# Altium footprint library Footprint-Lib-ABahlmann-MISC.PcbLib: 69 footprints (part 1 of 5)
Each footprint in its own frame and in the unit in brackets; x right, y up, seen from the top. Pads: shape width x height; smd on the part's side, far side on the other; paste and mask are expansions set on the pad; w line width, h text height; cw(c..) or ccw(c..) is an arc to the next point about the centre after c.
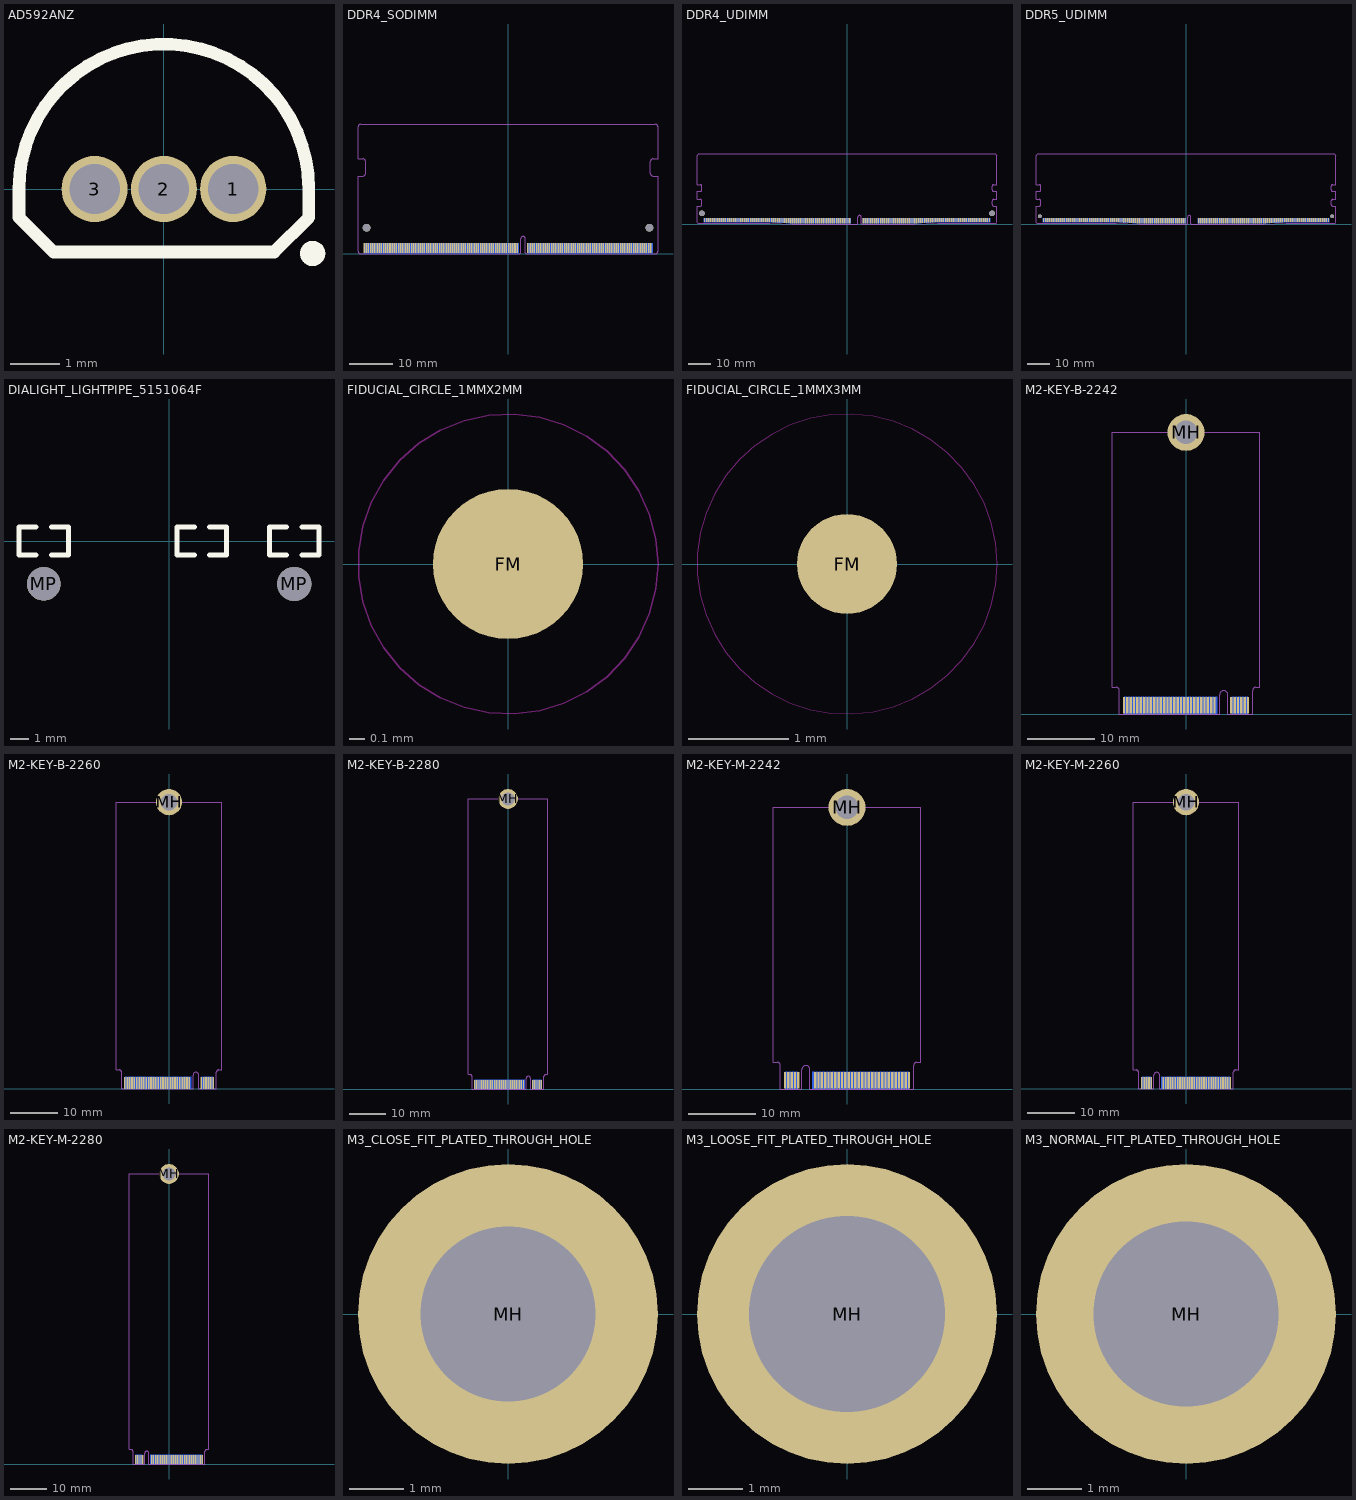
[diagram p0: the footprints below, top view; thin cyan lines are the x and y axes]

## AD592ANZ [mil]
pads (3):
  round 52.5 hole 40: 1(55,0) 2(0,0) 3(-55,0)
Top Overlay:
  circle w10: c118.11,-51.18 r5
  lines w10: -115,-22.5 -115,0 cw(c0,0) 115,0 115,-22.5 87.5,-50 -87.5,-50 -115,-22.5

## DDR4_SODIMM [mm]
pads (262):
  rect 0.35x2.3 smd paste-2539.97: 1(-33.375,1.275) 3(-32.875,1.275) 5(-32.375,1.275) 7(-31.875,1.275) 9(-31.375,1.275) 11(-30.875,1.275) 13(-30.375,1.275) 15(-29.875,1.275) 17(-29.375,1.275) 19(-28.875,1.275) 21(-28.375,1.275) 23(-27.875,1.275) 25(-27.375,1.275) 27(-26.875,1.275) 29(-26.375,1.275) 31(-25.875,1.275) 33(-25.375,1.275) 35(-24.875,1.275) 37(-24.375,1.275) 39(-23.875,1.275) 41(-23.375,1.275) 43(-22.875,1.275) 45(-22.375,1.275) 47(-21.875,1.275) 49(-21.375,1.275) 51(-20.875,1.275) 53(-20.375,1.275) 55(-19.875,1.275) 57(-19.375,1.275) 59(-18.875,1.275) 61(-18.375,1.275) 63(-17.875,1.275) 65(-17.375,1.275) 67(-16.875,1.275) 69(-16.375,1.275) 71(-15.875,1.275) 73(-15.375,1.275) 75(-14.875,1.275) 77(-14.375,1.275) 79(-13.875,1.275) 81(-13.375,1.275) 83(-12.875,1.275) 85(-12.375,1.275) 87(-11.875,1.275) 89(-11.375,1.275) 91(-10.875,1.275) 93(-10.375,1.275) 95(-9.875,1.275) 97(-9.375,1.275) 99(-8.875,1.275) 101(-8.375,1.275) 103(-7.875,1.275) 105(-7.375,1.275) 107(-6.875,1.275) 109(-6.375,1.275) 111(-5.875,1.275) 113(-5.375,1.275) 115(-4.875,1.275) 117(-4.375,1.275) 119(-3.875,1.275) 121(-3.375,1.275) 123(-2.875,1.275) 125(-2.375,1.275) 127(-1.875,1.275) 129(-1.375,1.275) 131(-0.875,1.275) 133(-0.375,1.275) 135(0.125,1.275) 137(0.625,1.275) 139(1.125,1.275) 141(1.625,1.275) 143(2.125,1.275) 145(4.625,1.275) 147(5.125,1.275) 149(5.625,1.275) 151(6.125,1.275) 153(6.625,1.275) 155(7.125,1.275) 157(7.625,1.275) 159(8.125,1.275) 161(8.625,1.275) 163(9.125,1.275) 165(9.625,1.275) 167(10.125,1.275) 169(10.625,1.275) 171(11.125,1.275) 173(11.625,1.275) 175(12.125,1.275) 177(12.625,1.275) 179(13.125,1.275) 181(13.625,1.275) 183(14.125,1.275) 185(14.625,1.275) 187(15.125,1.275) 189(15.625,1.275) 191(16.125,1.275) 193(16.625,1.275) 195(17.125,1.275) 197(17.625,1.275) 199(18.125,1.275) 201(18.625,1.275) 203(19.125,1.275) 205(19.625,1.275) 207(20.125,1.275) 209(20.625,1.275) 211(21.125,1.275) 213(21.625,1.275) 215(22.125,1.275) 217(22.625,1.275) 219(23.125,1.275) 221(23.625,1.275) 223(24.125,1.275) 225(24.625,1.275) 227(25.125,1.275) 229(25.625,1.275) 231(26.125,1.275) 233(26.625,1.275) 235(27.125,1.275) 237(27.625,1.275) 239(28.125,1.275) 241(28.625,1.275) 243(29.125,1.275) 245(29.625,1.275) 247(30.125,1.275) 249(30.625,1.275) 251(31.125,1.275) 253(31.625,1.275) 255(32.125,1.275) 257(32.625,1.275) 259(33.125,1.275)
  rect 0.35x2.3 smd far side paste-2539.97: 2(-33.125,1.275) 4(-32.625,1.275) 6(-32.125,1.275) 8(-31.625,1.275) 10(-31.125,1.275) 12(-30.625,1.275) 14(-30.125,1.275) 16(-29.625,1.275) 18(-29.125,1.275) 20(-28.625,1.275) 22(-28.125,1.275) 24(-27.625,1.275) 26(-27.125,1.275) 28(-26.625,1.275) 30(-26.125,1.275) 32(-25.625,1.275) 34(-25.125,1.275) 36(-24.625,1.275) 38(-24.125,1.275) 40(-23.625,1.275) 42(-23.125,1.275) 44(-22.625,1.275) 46(-22.125,1.275) 48(-21.625,1.275) 50(-21.125,1.275) 52(-20.625,1.275) 54(-20.125,1.275) 56(-19.625,1.275) 58(-19.125,1.275) 60(-18.625,1.275) 62(-18.125,1.275) 64(-17.625,1.275) 66(-17.125,1.275) 68(-16.625,1.275) 70(-16.125,1.275) 72(-15.625,1.275) 74(-15.125,1.275) 76(-14.625,1.275) 78(-14.125,1.275) 80(-13.625,1.275) 82(-13.125,1.275) 84(-12.626,1.275) 86(-12.126,1.275) 88(-11.626,1.275) 90(-11.126,1.275) 92(-10.626,1.275) 94(-10.126,1.275) 96(-9.626,1.275) 98(-9.126,1.275) 100(-8.626,1.275) 102(-8.126,1.275) 104(-7.626,1.275) 106(-7.126,1.275) 108(-6.626,1.275) 110(-6.126,1.275) 112(-5.626,1.275) 114(-5.126,1.275) 116(-4.626,1.275) 118(-4.126,1.275) 120(-3.626,1.275) 122(-3.126,1.275) 124(-2.626,1.275) 126(-2.126,1.275) 128(-1.626,1.275) 130(-1.126,1.275) 132(-0.625,1.275) 134(-0.125,1.275) 136(0.375,1.275) 138(0.875,1.275) 140(1.375,1.275) 142(1.875,1.275) 144(2.375,1.275) 146(4.875,1.275) 148(5.375,1.275) 150(5.875,1.275) 152(6.375,1.275) 154(6.875,1.275) 156(7.375,1.275) 158(7.875,1.275) 160(8.375,1.275) 162(8.875,1.275) 164(9.375,1.275) 166(9.875,1.275) 168(10.375,1.275) 170(10.875,1.275) 172(11.375,1.275) 174(11.875,1.275) 176(12.375,1.275) 178(12.875,1.275) 180(13.375,1.275) 182(13.875,1.275) 184(14.375,1.275) 186(14.875,1.275) 188(15.375,1.275) 190(15.875,1.275) 192(16.375,1.275) 194(16.875,1.275) 196(17.375,1.275) 198(17.875,1.275) 200(18.375,1.275) 202(18.875,1.275) 204(19.375,1.275) 206(19.875,1.275) 208(20.375,1.275) 210(20.875,1.275) 212(21.375,1.275) 214(21.875,1.275) 216(22.375,1.275) 218(22.875,1.275) 220(23.375,1.275) 222(23.875,1.275) 224(24.375,1.275) 226(24.875,1.275) 228(25.375,1.275) 230(25.875,1.275) 232(26.375,1.275) 234(26.875,1.275) 236(27.375,1.275) 238(27.875,1.275) 240(28.375,1.275) 242(28.875,1.275) 244(29.375,1.275) 246(29.875,1.275) 248(30.375,1.275) 250(30.875,1.275) 252(31.375,1.275) 254(31.875,1.275) 256(32.375,1.275) 258(32.875,1.275) 260(33.375,1.275)
  round 1.8 hole 1.8 unplated: MP(-32.8,6) MP(32.8,6)
Board Shape:
  lines w0.1: -34.8,0.6 ccw(c-34.2,0.6) -34.2,0 2.75,0 3,0.25 3,3.5 cw(c3.5,3.5) 4,3.5 4,0.25 4.25,0 34.2,0 ccw(c34.2,0.6) 34.8,0.6 34.8,18 33.7,18 cw(c33.7,18.65) 33.05,18.65 33.05,21.35 cw(c33.7,21.35) 33.7,22 34.8,22 34.8,29.4 ccw(c34.2,29.4) 34.2,30 -34.2,30 ccw(c-34.2,29.4) -34.8,29.4 -34.8,22 -33.7,22 cw(c-33.7,21.35) -33.05,21.35 -33.05,18.65 cw(c-33.7,18.65) -33.7,18 -34.8,18 -34.8,0.6

## DDR4_UDIMM [mm]
pads (290):
  rect 0.6x1.85 smd paste-2539.97: 1(-63.325,1.8) 2(-62.475,1.8) 3(-61.625,1.8) 4(-60.775,1.8) 5(-59.925,1.8) 6(-59.075,1.8) 7(-58.225,1.8) 8(-57.375,1.8) 9(-56.525,1.8) 10(-55.675,1.8) 11(-54.825,1.8) 12(-53.975,1.8) 13(-53.125,1.8) 14(-52.275,1.8) 15(-51.425,1.8) 16(-50.575,1.8) 17(-49.725,1.8) 18(-48.875,1.8) 19(-48.025,1.8) 20(-47.175,1.8) 21(-46.325,1.8) 22(-45.475,1.8) 23(-44.625,1.8) 24(-43.775,1.8) 25(-42.925,1.8) 26(-42.075,1.8) 27(-41.225,1.8) 28(-40.375,1.8) 29(-39.525,1.8) 30(-38.675,1.8) 31(-37.825,1.8) 32(-36.975,1.8) 33(-36.125,1.8) 34(-35.275,1.8) 35(-34.425,1.8) 36(-33.575,1.8) 116(39.525,1.8) 117(40.375,1.8) 118(41.225,1.8) 119(42.075,1.8) 120(42.925,1.8) 121(43.775,1.8) 122(44.625,1.8) 123(45.475,1.8) 124(46.325,1.8) 125(47.175,1.8) 126(48.025,1.8) 127(48.875,1.8) 128(49.725,1.8) 129(50.575,1.8) 130(51.425,1.8) 131(52.275,1.8) 132(53.125,1.8) 133(53.975,1.8) 134(54.825,1.8) 135(55.675,1.8) 136(56.525,1.8) 137(57.375,1.8) 138(58.225,1.8) 139(59.075,1.8) 140(59.925,1.8) 141(60.775,1.8) 142(61.625,1.8) 143(62.475,1.8) 144(63.325,1.8)
  rect 0.6x1.9 smd paste-2539.97: 37(-32.725,1.775) 115(38.675,1.775)
  rect 0.6x1.95 smd paste-2539.97: 38(-31.875,1.75) 114(37.825,1.75)
  rect 0.6x2 smd paste-2539.97: 39(-31.025,1.725) 113(36.975,1.725)
  rect 0.6x2.05 smd paste-2539.97: 40(-30.175,1.7) 112(36.125,1.7)
  rect 0.6x2.1 smd paste-2539.97: 41(-29.325,1.675) 111(35.275,1.675)
  rect 0.6x2.15 smd paste-2539.97: 42(-28.475,1.65) 110(34.425,1.65)
  rect 0.6x2.2 smd paste-2539.97: 43(-27.625,1.625) 109(33.575,1.625)
  rect 0.6x2.25 smd paste-2539.97: 44(-26.775,1.6) 108(32.725,1.6)
  rect 0.6x2.3 smd paste-2539.97: 45(-25.925,1.575) 107(31.875,1.575)
  rect 0.6x2.35 smd paste-2539.97: 46(-25.075,1.55) 47(-24.225,1.55) 48(-23.375,1.55) 49(-22.525,1.55) 50(-21.675,1.55) 51(-20.825,1.55) 52(-19.975,1.55) 53(-19.125,1.55) 54(-18.275,1.55) 55(-17.425,1.55) 56(-16.575,1.55) 57(-15.725,1.55) 58(-14.875,1.55) 59(-14.025,1.55) 60(-13.175,1.55) 61(-12.325,1.55) 62(-11.475,1.55) 63(-10.625,1.55) 64(-9.775,1.55) 65(-8.925,1.55) 66(-8.075,1.55) 67(-7.225,1.55) 68(-6.375,1.55) 69(-5.525,1.55) 70(-4.675,1.55) 71(-3.825,1.55) 72(-2.975,1.55) 73(-2.125,1.55) 74(-1.275,1.55) 75(-0.425,1.55) 76(0.425,1.55) 77(1.275,1.55) 78(7.225,1.55) 79(8.075,1.55) 80(8.925,1.55) 81(9.775,1.55) 82(10.625,1.55) 83(11.475,1.55) 84(12.325,1.55) 85(13.175,1.55) 86(14.025,1.55) 87(14.875,1.55) 88(15.725,1.55) 89(16.575,1.55) 90(17.425,1.55) 91(18.275,1.55) 92(19.125,1.55) 93(19.975,1.55) 94(20.825,1.55) 95(21.675,1.55) 96(22.525,1.55) 97(23.375,1.55) 98(24.225,1.55) 99(25.075,1.55) 100(25.925,1.55) 101(26.775,1.55) 102(27.625,1.55) 103(28.475,1.55) 104(29.325,1.55) 105(30.175,1.55) 106(31.025,1.55)
  rect 0.6x1.85 smd far side paste-2539.97: 145(-63.325,1.8) 146(-62.475,1.8) 147(-61.625,1.8) 148(-60.775,1.8) 149(-59.925,1.8) 150(-59.075,1.8) 151(-58.225,1.8) 152(-57.375,1.8) 153(-56.525,1.8) 154(-55.675,1.8) 155(-54.825,1.8) 156(-53.975,1.8) 157(-53.125,1.8) 158(-52.275,1.8) 159(-51.425,1.8) 160(-50.575,1.8) 161(-49.725,1.8) 162(-48.875,1.8) 163(-48.025,1.8) 164(-47.175,1.8) 165(-46.325,1.8) 166(-45.475,1.8) 167(-44.625,1.8) 168(-43.775,1.8) 169(-42.925,1.8) 170(-42.075,1.8) 171(-41.225,1.8) 172(-40.375,1.8) 173(-39.525,1.8) 174(-38.675,1.8) 175(-37.825,1.8) 176(-36.975,1.8) 177(-36.125,1.8) 178(-35.275,1.8) 179(-34.425,1.8) 180(-33.575,1.8) 260(39.525,1.8) 261(40.375,1.8) 262(41.225,1.8) 263(42.075,1.8) 264(42.925,1.8) 265(43.775,1.8) 266(44.625,1.8) 267(45.475,1.8) 268(46.325,1.8) 269(47.175,1.8) 270(48.025,1.8) 271(48.875,1.8) 272(49.725,1.8) 273(50.575,1.8) 274(51.425,1.8) 275(52.275,1.8) 276(53.125,1.8) 277(53.975,1.8) 278(54.825,1.8) 279(55.675,1.8) 280(56.525,1.8) 281(57.375,1.8) 282(58.225,1.8) 283(59.075,1.8) 284(59.925,1.8) 285(60.775,1.8) 286(61.625,1.8) 287(62.475,1.8) 288(63.325,1.8)
  rect 0.6x1.9 smd far side paste-2539.97: 181(-32.725,1.775) 259(38.675,1.775)
  rect 0.6x1.95 smd far side paste-2539.97: 182(-31.875,1.75) 258(37.825,1.75)
  rect 0.6x2 smd far side paste-2539.97: 183(-31.025,1.725) 257(36.975,1.725)
  rect 0.6x2.05 smd far side paste-2539.97: 184(-30.175,1.7) 256(36.125,1.7)
  rect 0.6x2.1 smd far side paste-2539.97: 185(-29.325,1.675) 255(35.275,1.675)
  rect 0.6x2.15 smd far side paste-2539.97: 186(-28.475,1.65) 254(34.425,1.65)
  rect 0.6x2.2 smd far side paste-2539.97: 187(-27.625,1.625) 253(33.575,1.625)
  rect 0.6x2.25 smd far side paste-2539.97: 188(-26.775,1.6) 252(32.725,1.6)
  rect 0.6x2.3 smd far side paste-2539.97: 189(-25.925,1.575) 251(31.875,1.575)
  rect 0.6x2.35 smd far side paste-2539.97: 190(-25.075,1.55) 191(-24.225,1.55) 192(-23.375,1.55) 193(-22.525,1.55) 194(-21.675,1.55) 195(-20.825,1.55) 196(-19.975,1.55) 197(-19.125,1.55) 198(-18.275,1.55) 199(-17.425,1.55) 200(-16.575,1.55) 201(-15.725,1.55) 202(-14.875,1.55) 203(-14.025,1.55) 204(-13.175,1.55) 205(-12.325,1.55) 206(-11.475,1.55) 207(-10.625,1.55) 208(-9.775,1.55) 209(-8.925,1.55) 210(-8.075,1.55) 211(-7.225,1.55) 212(-6.375,1.55) 213(-5.525,1.55) 214(-4.675,1.55) 215(-3.825,1.55) 216(-2.975,1.55) 217(-2.125,1.55) 218(-1.275,1.55) 219(-0.425,1.55) 220(0.425,1.55) 221(1.275,1.55) 222(7.225,1.55) 223(8.075,1.55) 224(8.925,1.55) 225(9.775,1.55) 226(10.625,1.55) 227(11.475,1.55) 228(12.325,1.55) 229(13.175,1.55) 230(14.025,1.55) 231(14.875,1.55) 232(15.725,1.55) 233(16.575,1.55) 234(17.425,1.55) 235(18.275,1.55) 236(19.125,1.55) 237(19.975,1.55) 238(20.825,1.55) 239(21.675,1.55) 240(22.525,1.55) 241(23.375,1.55) 242(24.225,1.55) 243(25.075,1.55) 244(25.925,1.55) 245(26.775,1.55) 246(27.625,1.55) 247(28.475,1.55) 248(29.325,1.55) 249(30.175,1.55) 250(31.025,1.55)
  round 2.5 hole 2.5 unplated: MP(-64.475,4.8) MP(64.475,4.8)
Board Shape:
  lines w0.1: -66.675,11 ccw(c-66.675,11) -66.675,11 ; -66.675,11 -65.225,11 cw(c-65.225,10.25) -64.475,10.25 -64.475,8.75 cw(c-65.225,8.75) -65.225,8 -66.675,8 -66.675,0.75 -66.425,0.5 ; -66.675,11 -66.675,14.6 ; -66.675,14.6 ccw(c-66.675,14.6) -66.675,14.6 ; -66.675,14.6 -65.225,14.6 ccw(c-65.225,15.35) -64.475,15.35 -64.475,16.85 ccw(c-65.225,16.85) -65.225,17.6 -66.675,17.6 ; -66.675,17.6 ccw(c-66.675,17.6) -66.675,17.6 ; -66.675,17.6 -66.675,30.366 ; -66.675,30.366 ccw(c-66.675,30.366) -66.675,30.366 ; -66.675,30.366 ccw(c-66.675,30.366) -66.675,30.366 ; -66.675,30.366 -65.791,31.25 65.791,31.25 66.675,30.366 66.675,17.6 ; -66.425,0.5 ccw(c-66.425,0.5) -66.425,0.5 ; -66.425,0.5 -34.425,0.5 -24.225,0 4.575,0 4.825,0.25 4.825,3.15 cw(c5.575,3.15) 6.325,3.15 6.325,0.25 6.575,0 30.175,0 40.375,0.5 66.425,0.5 66.675,0.75 66.675,8 65.225,8 cw(c65.225,8.75) 64.475,8.75 64.475,10.25 cw(c65.225,10.25) 65.225,11 66.675,11 ; 66.675,11 ccw(c66.675,11) 66.675,11 ; 66.675,11 66.675,14.6 ; 66.675,14.6 ccw(c66.675,14.6) 66.675,14.6 ; 66.675,14.6 65.225,14.6 cw(c65.225,15.35) 64.475,15.35 64.475,16.85 cw(c65.225,16.85) 65.225,17.6 66.675,17.6 ; 66.675,17.6 ccw(c66.675,17.6) 66.675,17.6

## DDR5_UDIMM [mm]
pads (290):
  rect 0.6x1.85 smd paste-2539.97: 1(-63.325,1.8) 2(-62.475,1.8) 3(-61.625,1.8) 4(-60.775,1.8) 5(-59.925,1.8) 6(-59.075,1.8) 7(-58.225,1.8) 8(-57.375,1.8) 9(-56.525,1.8) 10(-55.675,1.8) 11(-54.825,1.8) 12(-53.975,1.8) 13(-53.125,1.8) 14(-52.275,1.8) 15(-51.425,1.8) 16(-50.575,1.8) 17(-49.725,1.8) 18(-48.875,1.8) 19(-48.025,1.8) 20(-47.175,1.8) 21(-46.325,1.8) 22(-45.475,1.8) 23(-44.625,1.8) 24(-43.775,1.8) 25(-42.925,1.8) 26(-42.075,1.8) 27(-41.225,1.8) 28(-40.375,1.8) 29(-39.525,1.8) 30(-38.675,1.8) 31(-37.825,1.8) 32(-36.975,1.8) 33(-36.125,1.8) 34(-35.275,1.8) 35(-34.425,1.8) 36(-33.575,1.8) 37(-32.725,1.8) 38(-31.875,1.8) 39(-31.025,1.8) 40(-30.175,1.8) 121(43.775,1.8) 122(44.625,1.8) 123(45.475,1.8) 124(46.325,1.8) 125(47.175,1.8) 126(48.025,1.8) 127(48.875,1.8) 128(49.725,1.8) 129(50.575,1.8) 130(51.425,1.8) 131(52.275,1.8) 132(53.125,1.8) 133(53.975,1.8) 134(54.825,1.8) 135(55.675,1.8) 136(56.525,1.8) 137(57.375,1.8) 138(58.225,1.8) 139(59.075,1.8) 140(59.925,1.8) 141(60.775,1.8) 142(61.625,1.8) 143(62.475,1.8) 144(63.325,1.8)
  rect 0.6x1.9 smd paste-2539.97: 41(-29.325,1.775) 120(42.925,1.775)
  rect 0.6x1.95 smd paste-2539.97: 42(-28.475,1.75) 119(42.075,1.75)
  rect 0.6x2 smd paste-2539.97: 43(-27.625,1.725) 118(41.225,1.725)
  rect 0.6x2.05 smd paste-2539.97: 44(-26.775,1.7) 117(40.375,1.7)
  rect 0.6x2.1 smd paste-2539.97: 45(-25.925,1.675) 116(39.525,1.675)
  rect 0.6x2.15 smd paste-2539.97: 46(-25.075,1.65) 115(38.675,1.65)
  rect 0.6x2.2 smd paste-2539.97: 47(-24.225,1.625) 114(37.825,1.625)
  rect 0.6x2.25 smd paste-2539.97: 48(-23.375,1.6) 113(36.975,1.6)
  rect 0.6x2.3 smd paste-2539.97: 49(-22.525,1.575) 112(36.125,1.575)
  rect 0.6x2.35 smd paste-2539.97: 50(-21.675,1.55) 51(-20.825,1.55) 52(-19.975,1.55) 53(-19.125,1.55) 54(-18.275,1.55) 55(-17.425,1.55) 56(-16.575,1.55) 57(-15.725,1.55) 58(-14.875,1.55) 59(-14.025,1.55) 60(-13.175,1.55) 61(-12.325,1.55) 62(-11.475,1.55) 63(-10.625,1.55) 64(-9.775,1.55) 65(-8.925,1.55) 66(-8.075,1.55) 67(-7.225,1.55) 68(-6.375,1.55) 69(-5.525,1.55) 70(-4.675,1.55) 71(-3.825,1.55) 72(-2.975,1.55) 73(-2.125,1.55) 74(-1.275,1.55) 75(-0.425,1.55) 76(5.525,1.55) 77(6.375,1.55) 78(7.225,1.55) 79(8.075,1.55) 80(8.925,1.55) 81(9.775,1.55) 82(10.625,1.55) 83(11.475,1.55) 84(12.325,1.55) 85(13.175,1.55) 86(14.025,1.55) 87(14.875,1.55) 88(15.725,1.55) 89(16.575,1.55) 90(17.425,1.55) 91(18.275,1.55) 92(19.125,1.55) 93(19.975,1.55) 94(20.825,1.55) 95(21.675,1.55) 96(22.525,1.55) 97(23.375,1.55) 98(24.225,1.55) 99(25.075,1.55) 100(25.925,1.55) 101(26.775,1.55) 102(27.625,1.55) 103(28.475,1.55) 104(29.325,1.55) 105(30.175,1.55) 106(31.025,1.55) 107(31.875,1.55) 108(32.725,1.55) 109(33.575,1.55) 110(34.425,1.55) 111(35.275,1.55)
  rect 0.6x1.85 smd far side paste-2539.97: 145(-63.325,1.8) 146(-62.475,1.8) 147(-61.625,1.8) 148(-60.775,1.8) 149(-59.925,1.8) 150(-59.075,1.8) 151(-58.225,1.8) 152(-57.375,1.8) 153(-56.525,1.8) 154(-55.675,1.8) 155(-54.825,1.8) 156(-53.975,1.8) 157(-53.125,1.8) 158(-52.275,1.8) 159(-51.425,1.8) 160(-50.575,1.8) 161(-49.725,1.8) 162(-48.875,1.8) 163(-48.025,1.8) 164(-47.175,1.8) 165(-46.325,1.8) 166(-45.475,1.8) 167(-44.625,1.8) 168(-43.775,1.8) 169(-42.925,1.8) 170(-42.075,1.8) 171(-41.225,1.8) 172(-40.375,1.8) 173(-39.525,1.8) 174(-38.675,1.8) 175(-37.825,1.8) 176(-36.975,1.8) 177(-36.125,1.8) 178(-35.275,1.8) 179(-34.425,1.8) 180(-33.575,1.8) 181(-32.725,1.8) 182(-31.875,1.8) 183(-31.025,1.8) 184(-30.175,1.8) 265(43.775,1.8) 266(44.625,1.8) 267(45.475,1.8) 268(46.325,1.8) 269(47.175,1.8) 270(48.025,1.8) 271(48.875,1.8) 272(49.725,1.8) 273(50.575,1.8) 274(51.425,1.8) 275(52.275,1.8) 276(53.125,1.8) 277(53.975,1.8) 278(54.825,1.8) 279(55.675,1.8) 280(56.525,1.8) 281(57.375,1.8) 282(58.225,1.8) 283(59.075,1.8) 284(59.925,1.8) 285(60.775,1.8) 286(61.625,1.8) 287(62.475,1.8) 288(63.325,1.8)
  rect 0.6x1.9 smd far side paste-2539.97: 185(-29.325,1.775) 264(42.925,1.775)
  rect 0.6x1.95 smd far side paste-2539.97: 186(-28.475,1.75) 263(42.075,1.75)
  rect 0.6x2 smd far side paste-2539.97: 187(-27.625,1.725) 262(41.225,1.725)
  rect 0.6x2.05 smd far side paste-2539.97: 188(-26.775,1.7) 261(40.375,1.7)
  rect 0.6x2.1 smd far side paste-2539.97: 189(-25.925,1.675) 260(39.525,1.675)
  rect 0.6x2.15 smd far side paste-2539.97: 190(-25.075,1.65) 259(38.675,1.65)
  rect 0.6x2.2 smd far side paste-2539.97: 191(-24.225,1.625) 258(37.825,1.625)
  rect 0.6x2.25 smd far side paste-2539.97: 192(-23.375,1.6) 257(36.975,1.6)
  rect 0.6x2.3 smd far side paste-2539.97: 193(-22.525,1.575) 256(36.125,1.575)
  rect 0.6x2.35 smd far side paste-2539.97: 194(-21.675,1.55) 195(-20.825,1.55) 196(-19.975,1.55) 197(-19.125,1.55) 198(-18.275,1.55) 199(-17.425,1.55) 200(-16.575,1.55) 201(-15.725,1.55) 202(-14.875,1.55) 203(-14.025,1.55) 204(-13.175,1.55) 205(-12.325,1.55) 206(-11.475,1.55) 207(-10.625,1.55) 208(-9.775,1.55) 209(-8.925,1.55) 210(-8.075,1.55) 211(-7.225,1.55) 212(-6.375,1.55) 213(-5.525,1.55) 214(-4.675,1.55) 215(-3.825,1.55) 216(-2.975,1.55) 217(-2.125,1.55) 218(-1.275,1.55) 219(-0.425,1.55) 220(5.525,1.55) 221(6.375,1.55) 222(7.225,1.55) 223(8.075,1.55) 224(8.925,1.55) 225(9.775,1.55) 226(10.625,1.55) 227(11.475,1.55) 228(12.325,1.55) 229(13.175,1.55) 230(14.025,1.55) 231(14.875,1.55) 232(15.725,1.55) 233(16.575,1.55) 234(17.425,1.55) 235(18.275,1.55) 236(19.125,1.55) 237(19.975,1.55) 238(20.825,1.55) 239(21.675,1.55) 240(22.525,1.55) 241(23.375,1.55) 242(24.225,1.55) 243(25.075,1.55) 244(25.925,1.55) 245(26.775,1.55) 246(27.625,1.55) 247(28.475,1.55) 248(29.325,1.55) 249(30.175,1.55) 250(31.025,1.55) 251(31.875,1.55) 252(32.725,1.55) 253(33.575,1.55) 254(34.425,1.55) 255(35.275,1.55)
  round 1.75 hole 1.75 unplated: MP(-64.925,3.5) MP(64.925,3.5)
Board Shape:
  lines w0.1: -66.675,11 ccw(c-66.675,11) -66.675,11 ; -66.675,11 -66.675,14.6 ; -66.675,11 -65.225,11 cw(c-65.225,10.35) -64.575,10.35 -64.575,8.65 cw(c-65.225,8.65) -65.225,8 -66.675,8 -66.675,0.75 -66.425,0.5 -31.025,0.5 ; -66.675,14.6 ccw(c-66.675,14.6) -66.675,14.6 ; -66.675,14.6 -65.225,14.6 ccw(c-65.225,15.25) -64.575,15.25 -64.575,16.95 ccw(c-65.225,16.95) -65.225,17.6 -66.675,17.6 ; -66.675,17.6 ccw(c-66.675,17.6) -66.675,17.6 ; -66.675,17.6 -66.675,30.366 ; -66.675,30.366 ccw(c-66.675,30.366) -66.675,30.366 ; -66.675,30.366 ccw(c-66.675,30.366) -66.675,30.366 ; -66.675,30.366 -65.791,31.25 65.791,31.25 66.675,30.366 66.675,17.6 ; -31.025,0.5 ccw(c-31.025,0.5) -31.025,0.5 ; -31.025,0.5 -20.825,0 0.425,0 0.675,0.25 0.675,3.1 cw(c1.425,3.1) 2.175,3.1 2.175,0.25 2.425,0 34.425,0 44.625,0.5 66.425,0.5 66.675,0.75 66.675,8 65.225,8 cw(c65.225,8.65) 64.575,8.65 64.575,10.35 cw(c65.225,10.35) 65.225,11 66.675,11 ; 66.675,11 ccw(c66.675,11) 66.675,11 ; 66.675,11 66.675,14.6 ; 66.675,14.6 ccw(c66.675,14.6) 66.675,14.6 ; 66.675,14.6 65.225,14.6 cw(c65.225,15.25) 64.575,15.25 64.575,16.95 cw(c65.225,16.95) 65.225,17.6 66.675,17.6 ; 66.675,17.6 ccw(c66.675,17.6) 66.675,17.6

## DIALIGHT_LIGHTPIPE_5151064F [mm] "Light Pipe 3 High Clear Rigid Board Mount, Press Fit, Right Angle"
pads (2):
  round 1.8 hole 1.8 unplated: MP(-6.71,-2.29)
  round 1.825 hole 1.825 unplated: MP(6.71,-2.29)
Top Overlay:
  lines w0.254: -7.11,-0.75 -8.035,-0.75 -8.035,0.75 -7.11,0.75 ; -6.31,-0.75 -5.385,-0.75 -5.385,0.75 -6.31,0.75 ; 1.36,-0.75 0.435,-0.75 0.435,0.75 1.36,0.75 ; 2.16,-0.75 3.085,-0.75 3.085,0.75 2.16,0.75 ; 6.31,-0.75 5.385,-0.75 5.385,0.75 6.31,0.75 ; 7.11,-0.75 8.035,-0.75 8.035,0.75 7.11,0.75
3D body "5151064F.stp": height 13.7, standoff -2.86, extent -14.7,-2.921 8.236,2.261

## FIDUCIAL_CIRCLE_1MMX2MM [mm]
pads (1):
  round 1 smd paste-2539.97 mask+0.5: FM(0,0)
Top Layer keep-out:
  circle w0.01: c0,0 r1

## FIDUCIAL_CIRCLE_1MMX3MM [mm]
pads (1):
  round 1 smd paste-2539.97 mask+1: FM(0,0)
Top Layer keep-out:
  circle w0.01: c0,0 r1.5

## M2-KEY-B-2242 [mm] "M.2 Key B 22mm x 42mm Footprint Outline"
pads (68):
  rect 0.35x2.5 smd paste-2539.97: 1(9.25,1.3) 3(8.75,1.3) 5(8.25,1.3) 7(7.75,1.3) 9(7.25,1.3) 11(6.75,1.3) 21(4.25,1.3) 23(3.75,1.3) 25(3.25,1.3) 27(2.75,1.3) 29(2.25,1.3) 31(1.75,1.3) 33(1.25,1.3) 35(0.75,1.3) 37(0.25,1.3) 39(-0.25,1.3) 41(-0.75,1.3) 43(-1.25,1.3) 45(-1.75,1.3) 47(-2.25,1.3) 49(-2.75,1.3) 51(-3.25,1.3) 53(-3.75,1.3) 55(-4.25,1.3) 57(-4.75,1.3) 59(-5.25,1.3) 61(-5.75,1.3) 63(-6.25,1.3) 65(-6.75,1.3) 67(-7.25,1.3) 69(-7.75,1.3) 71(-8.25,1.3) 73(-8.75,1.3) 75(-9.25,1.3)
  rect 0.35x2.5 smd far side paste-2539.97: 2(9,1.3) 4(8.5,1.3) 6(8,1.3) 8(7.5,1.3) 10(7,1.3) 20(4.5,1.3) 22(4,1.3) 24(3.5,1.3) 26(3,1.3) 28(2.5,1.3) 30(2,1.3) 32(1.5,1.3) 34(1,1.3) 36(0.5,1.3) 38(0,1.3) 40(-0.5,1.3) 42(-1,1.3) 44(-1.5,1.3) 46(-2,1.3) 48(-2.5,1.3) 50(-3,1.3) 52(-3.5,1.3) 54(-4,1.3) 56(-4.5,1.3) 58(-5,1.3) 60(-5.5,1.3) 62(-6,1.3) 64(-6.5,1.3) 66(-7,1.3) 68(-7.5,1.3) 70(-8,1.3) 72(-8.5,1.3) 74(-9,1.3)
  round 5.5 hole 3.5: MH(0,42)
Board Shape:
  lines w0.1: -11,4 -10.425,4 cw(c-10.425,3.5) -9.925,3.5 -9.925,0 5.025,0 5.025,2.9 cw(c5.625,2.9) 6.225,2.9 6.225,0 9.925,0 9.925,3.5 cw(c10.425,3.5) 10.425,4 11,4 11,42 -11,42 -11,4
  text "B" at 5.142,3.85 h1

## M2-KEY-B-2260 [mm] "M.2 Key B 22mm x 60mm Footprint Outline"
pads (68):
  rect 0.35x2.5 smd paste-2539.97: 1(9.25,1.3) 3(8.75,1.3) 5(8.25,1.3) 7(7.75,1.3) 9(7.25,1.3) 11(6.75,1.3) 21(4.25,1.3) 23(3.75,1.3) 25(3.25,1.3) 27(2.75,1.3) 29(2.25,1.3) 31(1.75,1.3) 33(1.25,1.3) 35(0.75,1.3) 37(0.25,1.3) 39(-0.25,1.3) 41(-0.75,1.3) 43(-1.25,1.3) 45(-1.75,1.3) 47(-2.25,1.3) 49(-2.75,1.3) 51(-3.25,1.3) 53(-3.75,1.3) 55(-4.25,1.3) 57(-4.75,1.3) 59(-5.25,1.3) 61(-5.75,1.3) 63(-6.25,1.3) 65(-6.75,1.3) 67(-7.25,1.3) 69(-7.75,1.3) 71(-8.25,1.3) 73(-8.75,1.3) 75(-9.25,1.3)
  rect 0.35x2.5 smd far side paste-2539.97: 2(9,1.3) 4(8.5,1.3) 6(8,1.3) 8(7.5,1.3) 10(7,1.3) 20(4.5,1.3) 22(4,1.3) 24(3.5,1.3) 26(3,1.3) 28(2.5,1.3) 30(2,1.3) 32(1.5,1.3) 34(1,1.3) 36(0.5,1.3) 38(0,1.3) 40(-0.5,1.3) 42(-1,1.3) 44(-1.5,1.3) 46(-2,1.3) 48(-2.5,1.3) 50(-3,1.3) 52(-3.5,1.3) 54(-4,1.3) 56(-4.5,1.3) 58(-5,1.3) 60(-5.5,1.3) 62(-6,1.3) 64(-6.5,1.3) 66(-7,1.3) 68(-7.5,1.3) 70(-8,1.3) 72(-8.5,1.3) 74(-9,1.3)
  round 5.5 hole 3.5: MH(0,60)
Board Shape:
  lines w0.1: -11,4 -10.425,4 cw(c-10.425,3.5) -9.925,3.5 -9.925,0 5.025,0 5.025,2.9 cw(c5.625,2.9) 6.225,2.9 6.225,0 9.925,0 9.925,3.5 cw(c10.425,3.5) 10.425,4 11,4 11,60 -11,60 -11,4
  text "B" at 5.142,3.85 h1

## M2-KEY-B-2280 [mm] "M.2 Key B 22mm x 80mm Footprint Outline"
pads (68):
  rect 0.35x2.5 smd paste-2539.97: 1(9.25,1.3) 3(8.75,1.3) 5(8.25,1.3) 7(7.75,1.3) 9(7.25,1.3) 11(6.75,1.3) 21(4.25,1.3) 23(3.75,1.3) 25(3.25,1.3) 27(2.75,1.3) 29(2.25,1.3) 31(1.75,1.3) 33(1.25,1.3) 35(0.75,1.3) 37(0.25,1.3) 39(-0.25,1.3) 41(-0.75,1.3) 43(-1.25,1.3) 45(-1.75,1.3) 47(-2.25,1.3) 49(-2.75,1.3) 51(-3.25,1.3) 53(-3.75,1.3) 55(-4.25,1.3) 57(-4.75,1.3) 59(-5.25,1.3) 61(-5.75,1.3) 63(-6.25,1.3) 65(-6.75,1.3) 67(-7.25,1.3) 69(-7.75,1.3) 71(-8.25,1.3) 73(-8.75,1.3) 75(-9.25,1.3)
  rect 0.35x2.5 smd far side paste-2539.97: 2(9,1.3) 4(8.5,1.3) 6(8,1.3) 8(7.5,1.3) 10(7,1.3) 20(4.5,1.3) 22(4,1.3) 24(3.5,1.3) 26(3,1.3) 28(2.5,1.3) 30(2,1.3) 32(1.5,1.3) 34(1,1.3) 36(0.5,1.3) 38(0,1.3) 40(-0.5,1.3) 42(-1,1.3) 44(-1.5,1.3) 46(-2,1.3) 48(-2.5,1.3) 50(-3,1.3) 52(-3.5,1.3) 54(-4,1.3) 56(-4.5,1.3) 58(-5,1.3) 60(-5.5,1.3) 62(-6,1.3) 64(-6.5,1.3) 66(-7,1.3) 68(-7.5,1.3) 70(-8,1.3) 72(-8.5,1.3) 74(-9,1.3)
  round 5.5 hole 3.5: MH(0,80)
Board Shape:
  lines w0.1: -11,4 -10.425,4 cw(c-10.425,3.5) -9.925,3.5 -9.925,0 5.025,0 5.025,2.9 cw(c5.625,2.9) 6.225,2.9 6.225,0 9.925,0 9.925,3.5 cw(c10.425,3.5) 10.425,4 11,4 11,80 -11,80 -11,4
  text "B" at 5.142,3.85 h1

## M2-KEY-M-2242 [mm] "M.2 Key M 22mm x 42mm Footprint Outline"
pads (68):
  rect 0.35x2.5 smd paste-2539.97: 1(9.25,1.3) 3(8.75,1.3) 5(8.25,1.3) 7(7.75,1.3) 9(7.25,1.3) 11(6.75,1.3) 13(6.25,1.3) 15(5.75,1.3) 17(5.25,1.3) 19(4.75,1.3) 21(4.25,1.3) 23(3.75,1.3) 25(3.25,1.3) 27(2.75,1.3) 29(2.25,1.3) 31(1.75,1.3) 33(1.25,1.3) 35(0.75,1.3) 37(0.25,1.3) 39(-0.25,1.3) 41(-0.75,1.3) 43(-1.25,1.3) 45(-1.75,1.3) 47(-2.25,1.3) 49(-2.75,1.3) 51(-3.25,1.3) 53(-3.75,1.3) 55(-4.25,1.3) 57(-4.75,1.3) 67(-7.25,1.3) 69(-7.75,1.3) 71(-8.25,1.3) 73(-8.75,1.3) 75(-9.25,1.3)
  rect 0.35x2.5 smd far side paste-2539.97: 2(9,1.3) 4(8.5,1.3) 6(8,1.3) 8(7.5,1.3) 10(7,1.3) 12(6.5,1.3) 14(6,1.3) 16(5.5,1.3) 18(5,1.3) 20(4.5,1.3) 22(4,1.3) 24(3.5,1.3) 26(3,1.3) 28(2.5,1.3) 30(2,1.3) 32(1.5,1.3) 34(1,1.3) 36(0.5,1.3) 38(0,1.3) 40(-0.5,1.3) 42(-1,1.3) 44(-1.5,1.3) 46(-2,1.3) 48(-2.5,1.3) 50(-3,1.3) 52(-3.5,1.3) 54(-4,1.3) 56(-4.5,1.3) 58(-5,1.3) 68(-7.5,1.3) 70(-8,1.3) 72(-8.5,1.3) 74(-9,1.3)
  round 5.5 hole 3.5: MH(0,42)
Board Shape:
  lines w0.1: -11,4 -10.425,4 cw(c-10.425,3.5) -9.925,3.5 -9.925,0 -6.725,0 -6.725,2.9 cw(c-6.125,2.9) -5.525,2.9 -5.525,0 9.925,0 9.925,3.5 cw(c10.425,3.5) 10.425,4 11,4 11,42 -11,42 -11,4
  text "M" at -6.608,3.85 h1

## M2-KEY-M-2260 [mm] "M.2 Key M 22mm x 60mm Footprint Outline"
pads (68):
  rect 0.35x2.5 smd paste-2539.97: 1(9.25,1.3) 3(8.75,1.3) 5(8.25,1.3) 7(7.75,1.3) 9(7.25,1.3) 11(6.75,1.3) 13(6.25,1.3) 15(5.75,1.3) 17(5.25,1.3) 19(4.75,1.3) 21(4.25,1.3) 23(3.75,1.3) 25(3.25,1.3) 27(2.75,1.3) 29(2.25,1.3) 31(1.75,1.3) 33(1.25,1.3) 35(0.75,1.3) 37(0.25,1.3) 39(-0.25,1.3) 41(-0.75,1.3) 43(-1.25,1.3) 45(-1.75,1.3) 47(-2.25,1.3) 49(-2.75,1.3) 51(-3.25,1.3) 53(-3.75,1.3) 55(-4.25,1.3) 57(-4.75,1.3) 67(-7.25,1.3) 69(-7.75,1.3) 71(-8.25,1.3) 73(-8.75,1.3) 75(-9.25,1.3)
  rect 0.35x2.5 smd far side paste-2539.97: 2(9,1.3) 4(8.5,1.3) 6(8,1.3) 8(7.5,1.3) 10(7,1.3) 12(6.5,1.3) 14(6,1.3) 16(5.5,1.3) 18(5,1.3) 20(4.5,1.3) 22(4,1.3) 24(3.5,1.3) 26(3,1.3) 28(2.5,1.3) 30(2,1.3) 32(1.5,1.3) 34(1,1.3) 36(0.5,1.3) 38(0,1.3) 40(-0.5,1.3) 42(-1,1.3) 44(-1.5,1.3) 46(-2,1.3) 48(-2.5,1.3) 50(-3,1.3) 52(-3.5,1.3) 54(-4,1.3) 56(-4.5,1.3) 58(-5,1.3) 68(-7.5,1.3) 70(-8,1.3) 72(-8.5,1.3) 74(-9,1.3)
  round 5.5 hole 3.5: MH(0,60)
Board Shape:
  lines w0.1: -11,4 -10.425,4 cw(c-10.425,3.5) -9.925,3.5 -9.925,0 -6.725,0 -6.725,2.9 cw(c-6.125,2.9) -5.525,2.9 -5.525,0 9.925,0 9.925,3.5 cw(c10.425,3.5) 10.425,4 11,4 11,60 -11,60 -11,4
  text "M" at -6.608,3.85 h1

## M2-KEY-M-2280 [mm] "M.2 Key M 22mm x 80mm Footprint Outline"
pads (68):
  rect 0.35x2.5 smd paste-2539.97: 1(9.25,1.3) 3(8.75,1.3) 5(8.25,1.3) 7(7.75,1.3) 9(7.25,1.3) 11(6.75,1.3) 13(6.25,1.3) 15(5.75,1.3) 17(5.25,1.3) 19(4.75,1.3) 21(4.25,1.3) 23(3.75,1.3) 25(3.25,1.3) 27(2.75,1.3) 29(2.25,1.3) 31(1.75,1.3) 33(1.25,1.3) 35(0.75,1.3) 37(0.25,1.3) 39(-0.25,1.3) 41(-0.75,1.3) 43(-1.25,1.3) 45(-1.75,1.3) 47(-2.25,1.3) 49(-2.75,1.3) 51(-3.25,1.3) 53(-3.75,1.3) 55(-4.25,1.3) 57(-4.75,1.3) 67(-7.25,1.3) 69(-7.75,1.3) 71(-8.25,1.3) 73(-8.75,1.3) 75(-9.25,1.3)
  rect 0.35x2.5 smd far side paste-2539.97: 2(9,1.3) 4(8.5,1.3) 6(8,1.3) 8(7.5,1.3) 10(7,1.3) 12(6.5,1.3) 14(6,1.3) 16(5.5,1.3) 18(5,1.3) 20(4.5,1.3) 22(4,1.3) 24(3.5,1.3) 26(3,1.3) 28(2.5,1.3) 30(2,1.3) 32(1.5,1.3) 34(1,1.3) 36(0.5,1.3) 38(0,1.3) 40(-0.5,1.3) 42(-1,1.3) 44(-1.5,1.3) 46(-2,1.3) 48(-2.5,1.3) 50(-3,1.3) 52(-3.5,1.3) 54(-4,1.3) 56(-4.5,1.3) 58(-5,1.3) 68(-7.5,1.3) 70(-8,1.3) 72(-8.5,1.3) 74(-9,1.3)
  round 5.5 hole 3.5: MH(0,80)
Board Shape:
  lines w0.1: -11,4 -11,80 11,80 11,4 10.425,4 ccw(c10.425,3.5) 9.925,3.5 9.925,0 -5.525,0 -5.525,2.9 ccw(c-6.125,2.9) -6.725,2.9 -6.725,0 -9.925,0 -9.925,3.5 ccw(c-10.425,3.5) -10.425,4 -11,4
  text "M" at -6.608,3.85 h1

## M3_CLOSE_FIT_PLATED_THROUGH_HOLE [mm]
pads (1):
  round 5.5 hole 3.2: MH(0,0)
3D body "M3x6mm_Hex-Socket-Drive-Screw_A4-Stainless-Steel.STEP": height 3.01, standoff -5.99, extent -2.75,-2.738 2.75,2.738

## M3_LOOSE_FIT_PLATED_THROUGH_HOLE [mm]
pads (1):
  round 5.5 hole 3.6: MH(0,0)
3D body "M3x6mm_Hex-Socket-Drive-Screw_A4-Stainless-Steel.STEP": height 3.01, standoff -5.99, extent -2.75,-2.738 2.75,2.738

## M3_NORMAL_FIT_PLATED_THROUGH_HOLE [mm]
pads (1):
  round 5.5 hole 3.4: MH(0,0)
3D body "M3x6mm_Hex-Socket-Drive-Screw_A4-Stainless-Steel.STEP": height 3.01, standoff -5.99, extent -2.75,-2.738 2.75,2.738